# Altium footprint library Switch.PcbLib: 29 footprints (part 1 of 2)
Each footprint in its own frame and in the unit in brackets; x right, y up, seen from the top. Pads: shape width x height; smd on the part's side, far side on the other; paste and mask are expansions set on the pad; w line width, h text height; cw(c..) or ccw(c..) is an arc to the next point about the centre after c.
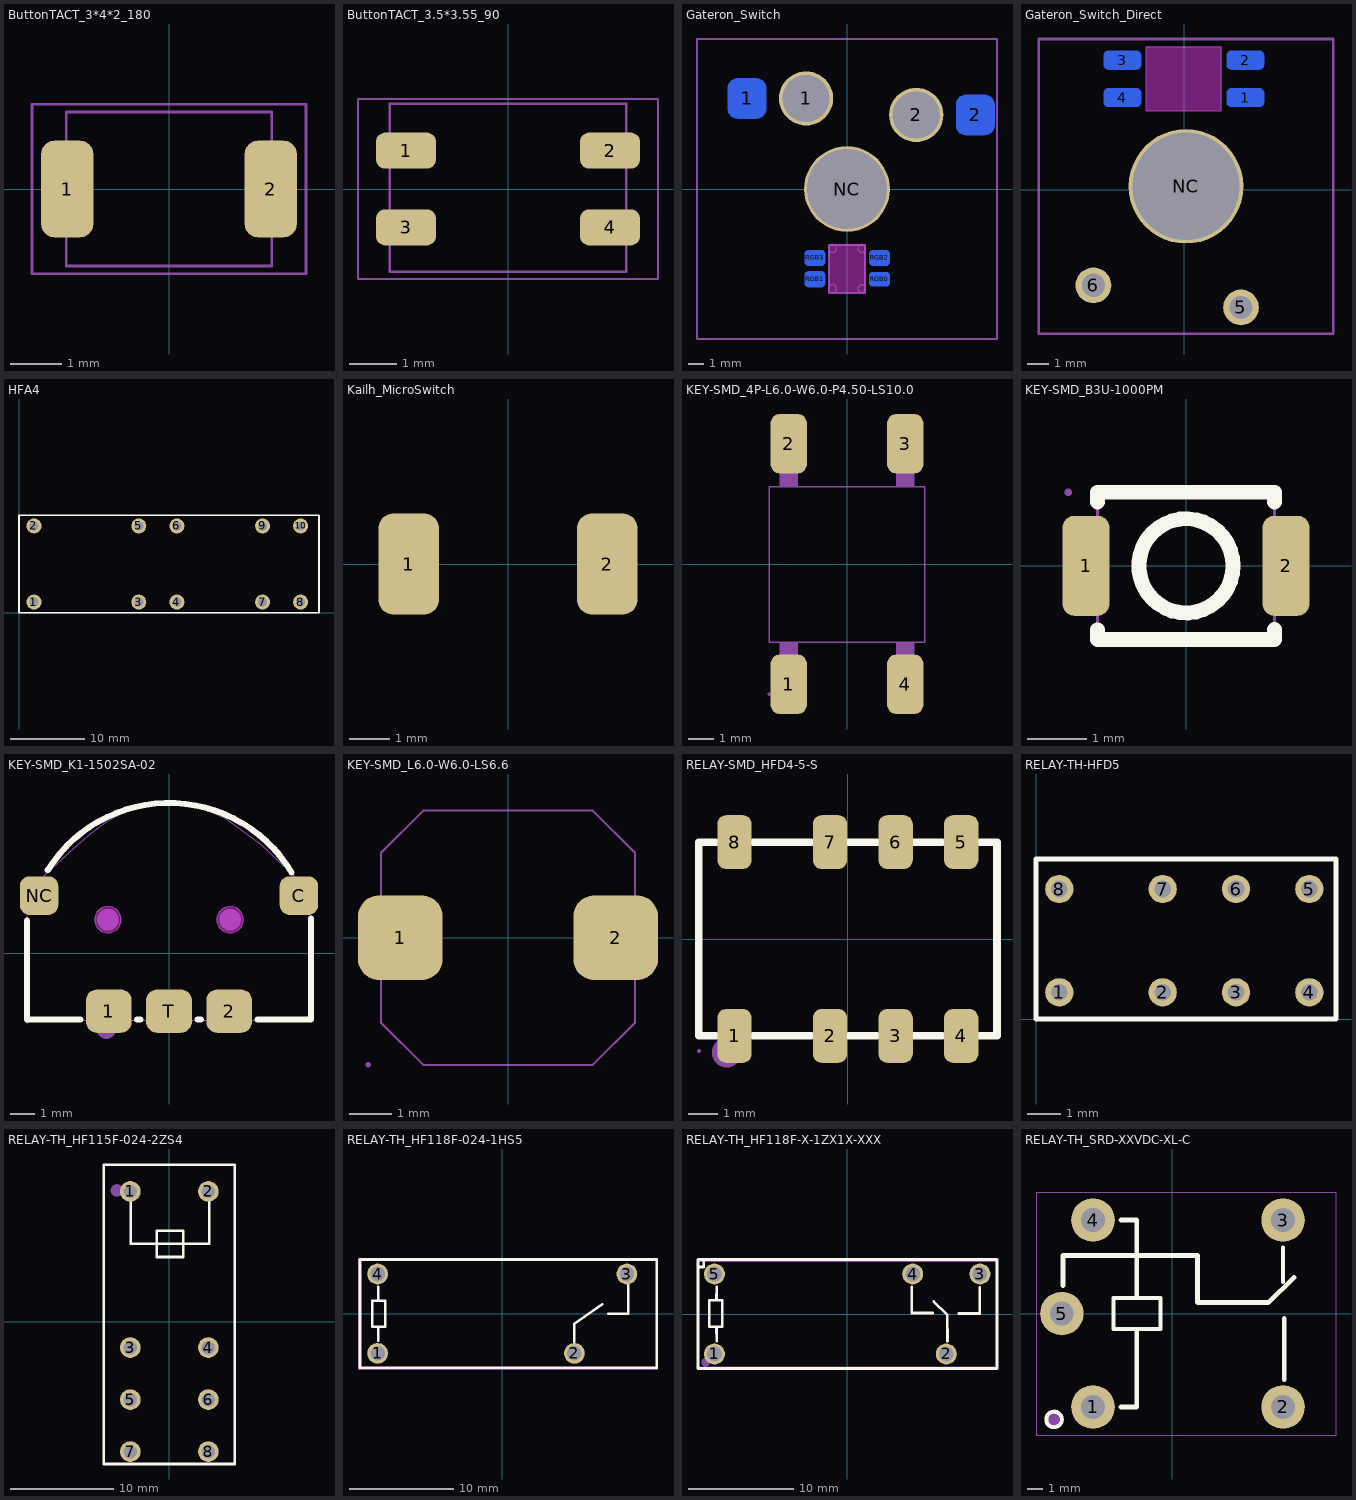
[diagram p0: the footprints below, top view; thin cyan lines are the x and y axes]

## ButtonTACT_3*4*2_180 [mil] "两脚小龟按钮_正按_不带定位柱"
height 78.74
pads (2):
  rrect50% 40x74 smd: 1(-78,0) 2(78,0)
Mechanical 13:
  lines w2: -78.73,-59.05 78.75,-59.05 78.75,59.06 -78.74,59.06 -78.74,-59.06
Mechanical 14:
  lines w2: -105,-65 105,-65 105,65 -105,65 -105,-65
3D body "20041.stp": height 62.99, standoff 0, extent -78.73,-49.2 78.75,49.22

## ButtonTACT_3.5*3.55_90 [mil] "四脚中龟按钮_侧按_不带定位柱"
height 169.29
pads (4):
  rrect50% 50x30 smd: 1(-85,32) 2(85,32) 3(-85,-32) 4(85,-32)
Mechanical 13:
  lines w2: -98.43,-68.9 -98.43,71 98.43,71 98.43,-68.9 -98.43,-68.9
Mechanical 14:
  lines w2: -125,-75 -125,75 125,75 125,-75 -125,-75
3D body "User Library-KMS231G.STEP": height 55.91, standoff -0.77, extent -90.1,-54.76 91,85

## Gateron_Switch [mm] "佳达隆热插拔带灯矮轴"
pads (9):
  rrect50% 2.45x2.55 smd far side mask+0.051: 1(-6.35,5.752) 2(8.15,4.702)
  round 3.45 hole 3 mask+0.051: 1(-2.6,5.752) 2(4.4,4.702)
  round 5.45 hole 5.1 mask+0.102: NC(0,0)
  rrect50% 1.3x0.9 smd far side mask+0.051: RGB0(2.063,-5.727)
  rrect50% 1.3x1 smd far side mask+0.051: RGB1(-2.037,-5.727) RGB2(2.063,-4.377) RGB3(-2.037,-4.377)
Bottom Overlay:
  circle w0.2: c-2.527,-3.401 r0.1
  lines w0.15: -7,-6 -7,-7 -6,-7 ; 6,-7 7,-7 7,-6
  lines w0.254: -5.2,4.245 -5.2,3.577 1.1,3.577 cw(c1.1,2.98) 1.522,3.402 2.626,2.701 ccw(c3.048,3.123) 3.048,2.527 7,2.527 7,3.195 ; -5.2,7.258 -5.2,7.927 1.1,7.927 cw(c1.1,7.33) 1.522,7.752 2.626,7.051 ccw(c3.048,7.473) 3.048,6.877 7,6.877 7,6.208
Keep-Out Layer:
  board cut-out: 1.163,-6.552 -1.137,-6.552 -1.137,-3.552 1.163,-3.552
  board cut-out: -0.667,-3.772 -0.667,-3.822 -0.705,-3.914 -0.776,-3.984 -0.867,-4.022 -0.967,-4.022 -1.059,-3.984 -1.129,-3.914 -1.167,-3.822 -1.167,-3.772 -1.167,-3.722 -1.129,-3.631 -1.059,-3.56 -0.967,-3.522 -0.867,-3.522 -0.776,-3.56 -0.705,-3.631 -0.667,-3.722 -0.667,-3.772
  board cut-out: 1.193,-3.772 1.193,-3.822 1.155,-3.914 1.084,-3.984 0.992,-4.022 0.893,-4.022 0.801,-3.984 0.731,-3.914 0.693,-3.822 0.693,-3.772 0.693,-3.722 0.731,-3.631 0.801,-3.56 0.893,-3.522 0.992,-3.522 1.084,-3.56 1.155,-3.631 1.193,-3.722 1.193,-3.772
  board cut-out: 1.193,-6.332 1.193,-6.382 1.155,-6.474 1.084,-6.544 0.992,-6.582 0.893,-6.582 0.801,-6.544 0.731,-6.474 0.693,-6.382 0.693,-6.332 0.693,-6.282 0.731,-6.19 0.801,-6.12 0.893,-6.082 0.992,-6.082 1.084,-6.12 1.155,-6.19 1.193,-6.282 1.193,-6.332
  board cut-out: -0.667,-6.332 -0.667,-6.382 -0.705,-6.474 -0.776,-6.544 -0.867,-6.582 -0.967,-6.582 -1.059,-6.544 -1.129,-6.474 -1.167,-6.382 -1.167,-6.332 -1.167,-6.282 -1.129,-6.19 -1.059,-6.12 -0.967,-6.082 -0.867,-6.082 -0.776,-6.12 -0.705,-6.19 -0.667,-6.282 -0.667,-6.332
Mechanical 1:
  circle w0.025: c-0.917,-3.772 r0.25
  circle w0.025: c0.943,-3.772 r0.25
  circle w0.025: c0.943,-6.332 r0.25
  circle w0.025: c-0.917,-6.332 r0.25
  lines w0.025: -1.137,-6.552 -1.137,-3.552 1.163,-3.552 1.163,-6.552 -1.137,-6.552
Mechanical 6:
  circle w0.1: c-2.038,-4.376 r0.228
  circle w0.127: c-2.6,5.75 r1.5
  circle w0.127: c4.4,4.7 r1.5
  lines w0.1: -1.143,-6.604 1.143,-6.604 1.143,-3.556 -1.143,-3.556 -1.143,-4.206 -1.143,-4.191 -1.143,-6.589
  lines w0.15: -9.525,-9.525 9.525,-9.525 9.525,9.525 -9.525,9.525 -9.525,-9.525

## Gateron_Switch_Direct [mil]
pads (7):
  rrect50% 70x35 smd far side paste+0 mask+4: 1(114,172) 2(114,242) 3(-116,242) 4(-116,172)
  round 66.93 hole 43.31 paste-99999 mask+2: 5(105.87,-220.44) 6(-170.22,-179.05)
  round 214.57 hole 200.79 copper offset -0.01,-0.01 paste-99999 mask+4.02: NC(2.99,5.99)
Bottom Overlay:
  circle w4.92: c170,170 r0.39
Keep-Out Layer:
  board cut-out: 68.72,267.28 -71.28,267.28 -71.28,147.28 68.72,147.28
Mechanical 1:
  lines w0.2: -71.28,147.28 -71.28,267.28 68.72,267.28 68.72,147.28 -71.28,147.28
Mechanical 6:
  circle w10: c3,6 r100.39
  lines w5: -272.58,-269.58 -272.58,281.6 278.6,281.6 278.6,-269.58 -272.58,-269.58

## HFA4 [mm]
pads (10):
  round 2 hole 1.2: 1(2,1.42) 2(2,11.58) 3(15.97,1.42) 4(21.05,1.42) 5(15.97,11.58) 6(21.05,11.58) 7(32.48,1.42) 8(37.56,1.42) 9(32.48,11.58) 10(37.56,11.58)
Top Overlay:
  lines w0.203: 40,0 0,0 0,13 40,13 ; 40.005,0 40.005,13

## Kailh_MicroSwitch [mm]
pads (2):
  rrect50% 1.5x2.5 smd mask+0.051: 1(-2.45,0) 2(2.45,0)

## KEY-SMD_4P-L6.0-W6.0-P4.50-LS10.0 [mm]
pads (4):
  rrect50% 1.4x2.3 smd: 1(-2.25,-4.643) 2(-2.25,4.643) 3(2.25,4.643) 4(2.25,-4.643)
Mechanical 15:
  region: -2.6,-5.025 -2.6,-4.265 -1.9,-4.265 -1.9,-5.025
  region: -2.6,-4.275 -2.6,-3.015 -1.9,-3.015 -1.9,-4.275
  region: 1.9,-5.025 1.9,-4.265 2.6,-4.265 2.6,-5.025
  region: 1.9,-4.275 1.9,-3.015 2.6,-3.015 2.6,-4.275
  region: -2.6,4.215 -2.6,4.975 -1.9,4.975 -1.9,4.215
  region: -2.6,2.965 -2.6,4.225 -1.9,4.225 -1.9,2.965
  region: 1.9,4.215 1.9,4.975 2.6,4.975 2.6,4.215
  region: 1.9,2.965 1.9,4.225 2.6,4.225 2.6,2.965
  region: -2.94,-5.025 -2.94,-5.001 -2.975,-4.965 -3.025,-4.965 -3.06,-5.001 -3.06,-5.025 -3.06,-5.05 -3.025,-5.085 -2.975,-5.085 -2.94,-5.05 -2.94,-5.025
  lines w0.051: -3,-3.025 3,-3.025 3,2.975 -3,2.975 -3,-3.025
3D body "key.step": height 4.95, standoff -0.05, extent -3.002,-5.002 2.998,4.998

## KEY-SMD_B3U-1000PM [mil]
pads (2):
  rrect50% 31.5x66.9 smd mask+2: 1(-66.9,0) 2(66.9,0)
Top Overlay:
  circle w10: c0,0 r31.5
  lines w10: -59.1,-42.8 -59.1,-49.2 ; -59.1,42.6 -59.1,49.2 ; 59.1,-42.6 59.1,-49.2 ; 59.1,42.6 59.1,49.2 ; -59.1,-49.2 59.1,-49.2 ; -59.1,-49.2 59.1,-49.2 ; -59.1,49.2 59.1,49.2 ; -59.1,49.2 59.1,49.2
Mechanical 15:
  region: -76.3,49.2 -76.3,50.19 -77.71,51.6 -79.69,51.6 -81.1,50.19 -81.1,49.2 -81.1,48.21 -79.69,46.8 -77.71,46.8 -76.3,48.21 -76.3,49.2
  region: 55.1,-27.6 55.1,27.6 78.7,27.6 78.7,-27.6
  region: -78.7,-27.6 -78.7,27.6 -55.1,27.6 -55.1,-27.6
  lines w2: -59.1,-49.2 -59.1,49.2 59.1,49.2 59.1,-49.2 -59.1,-49.2

## KEY-SMD_K1-1502SA-02 [mm] "三向拨动开关"
pads (5):
  rrect50% 1.9x1.8 smd mask+0.051: 1(-2.5,-2.4) 2(2.5,-2.4) T(0,-2.4)
  rrect50% 1.6x1.6 smd mask+0.051: C(5.4,2.4) NC(-5.4,2.4)
Top Overlay:
  lines w0.254: -5.9,1.369 -5.9,-2.75 -3.681,-2.75 ; -5.04,3.458 cw(c0,0.308) 5.094,3.369 ; -1.319,-2.75 -1.181,-2.75 ; 1.181,-2.75 1.319,-2.75 ; 3.681,-2.75 5.9,-2.75 5.9,1.45
Keep-Out Layer:
  board cut-out: 2.54,1.95 2.431,1.95 2.228,1.866 2.074,1.712 1.99,1.509 1.99,1.291 2.074,1.088 2.228,0.934 2.431,0.85 2.54,0.85 2.649,0.85 2.852,0.934 3.006,1.088 3.09,1.291 3.09,1.509 3.006,1.712 2.852,1.866 2.649,1.95 2.54,1.95
  board cut-out: -2.54,1.95 -2.649,1.95 -2.852,1.866 -3.006,1.712 -3.09,1.509 -3.09,1.291 -3.006,1.088 -2.852,0.934 -2.649,0.85 -2.54,0.85 -2.431,0.85 -2.228,0.934 -2.074,1.088 -1.99,1.291 -1.99,1.509 -2.074,1.712 -2.228,1.866 -2.431,1.95 -2.54,1.95
Mechanical 1:
  circle w0.005: c2.54,1.4 r0.55
  circle w0.005: c-2.54,1.4 r0.55
Mechanical 6:
  circle w0.4: c-2.6,-3.15 r0.2
  circle w0.45: c2.54,1.4 r0.225
  circle w0.45: c-2.54,1.4 r0.225
Mechanical 15:
  region: 4.9,1.8 4.9,3 5.9,3 5.9,1.8
  region: -5.9,1.8 -5.9,3 -4.9,3 -4.9,1.8
  region: 1.75,-1.7 3.25,-1.7 3.25,-2.85 1.75,-2.85
  region: -0.75,-1.7 0.75,-1.7 0.75,-2.85 -0.75,-2.85
  region: -1.75,-2.85 -3.25,-2.85 -3.25,-1.7 -1.75,-1.7
  region: -5.9,-2.79 -5.925,-2.79 -5.96,-2.825 -5.96,-2.875 -5.925,-2.91 -5.9,-2.91 -5.875,-2.91 -5.84,-2.875 -5.84,-2.825 -5.875,-2.79 -5.9,-2.79
  lines w0.051: -4,6.83 -3.999,6.831 ; -1.31,6.05 -2.024,5.772 -2.629,5.453 -3.24,4.99 -3.81,4.5 -5.4,3.03 -5.9,3.03 -5.9,-2.77 5.9,-2.77 5.9,3.029 5.9,3.03 5.4,3.03 3.806,4.528 2.339,5.619 1.31,6.05
3D body "三向开关 v1.step": height 2.58, standoff -0.42, extent -5.9,-2.799 5.9,8.951

## KEY-SMD_L6.0-W6.0-LS6.6 [mm]
pads (2):
  rrect50% 2x2 smd: 1(-2.54,0) 2(2.54,0)
Mechanical 15:
  region: -3.3,-0.7 -3.3,0.7 -2.3,0.7 -2.3,-0.7
  region: 2.3,-0.7 2.3,0.7 3.3,0.7 3.3,-0.7
  region: -3.24,-3 -3.24,-2.975 -3.275,-2.94 -3.325,-2.94 -3.36,-2.975 -3.36,-3 -3.36,-3.025 -3.325,-3.06 -3.275,-3.06 -3.24,-3.025 -3.24,-3
  lines w0.051: -3,-2 -2,-3 2,-3 3,-2 3,2 2,3 -2,3 -3,2 -3,-2
3D body "silence key.step": height 5, standoff 0, extent -3.3,-3 3.299,3

## RELAY-SMD_HFD4-5-S [mm]
pads (8):
  rrect50% 1.15x1.8 smd: 1(-3.8,-3.25) 2(-0.6,-3.25) 3(1.6,-3.25) 4(3.8,-3.25) 5(3.8,3.25) 6(1.6,3.25) 7(-0.6,3.25) 8(-3.8,3.25)
Top Overlay:
  lines w0.254: -4.431,-3.25 -5,-3.25 -5,3.25 -4.431,3.25 ; -3.169,-3.25 -1.231,-3.25 ; -3.169,3.25 -1.231,3.25 ; 0.031,-3.25 0.969,-3.25 ; 0.031,3.25 0.969,3.25 ; 2.231,-3.25 3.169,-3.25 ; 2.231,3.25 3.169,3.25 ; 4.431,-3.25 5,-3.25 5,3.25 4.431,3.25
Mechanical 6:
  circle w0.5: c-4.064,-3.81 r0.25
Mechanical 15:
  region: -4.94,-3.75 -4.94,-3.725 -4.975,-3.69 -5.025,-3.69 -5.06,-3.725 -5.06,-3.75 -5.06,-3.775 -5.025,-3.81 -4.975,-3.81 -4.94,-3.775 -4.94,-3.75
  region: -0.8,-3.75 -0.8,-2.39 -0.4,-2.39 -0.4,-3.75
  region: 1.4,-3.75 1.4,-2.39 1.8,-2.39 1.8,-3.75
  region: -4,-3.75 -4,-2.39 -3.6,-2.39 -3.6,-3.75
  region: 3.6,-3.75 3.6,-2.39 4,-2.39 4,-3.75
  region: 4,3.75 4,2.39 3.6,2.39 3.6,3.75
  region: 1.8,3.75 1.8,2.39 1.4,2.39 1.4,3.75
  region: -0.4,3.75 -0.4,2.39 -0.8,2.39 -0.8,3.75
  region: -3.6,3.75 -3.6,2.39 -4,2.39 -4,3.75
  lines w0.051: -5,-3.25 5,-3.25 5,3.25 -5,3.25 -5,-3.25

## RELAY-TH-HFD5 [mm]
pads (8):
  round 0.85 hole 0.5: 1(0.7,0.8) 2(3.8,0.8) 3(6,0.8) 4(8.2,0.8) 5(8.2,3.9) 6(6,3.9) 7(3.8,3.9) 8(0.7,3.9)
Top Overlay:
  lines w0.152: 0,0 0,4.8 9,4.8 9,0 0,0

## RELAY-TH_HF115F-024-2ZS4 [mm]
pads (8):
  round 2 hole 1.3 mask+0.05: 1(-3.78,12.6) 2(3.78,12.6) 3(-3.78,-2.52) 4(3.78,-2.52) 5(-3.78,-7.56) 6(3.78,-7.56) 7(-3.78,-12.6) 8(3.78,-12.6)
Top Overlay:
  lines w0.254: -3.746,12.601 -3.746,7.521 3.873,7.521 3.873,12.601 ; -6.35,-13.8 6.35,-13.8 6.35,15.199 -6.1,15.199 -6.35,15.2 -6.35,-13.8 ; -1.206,6.251 -1.206,8.791 1.333,8.791 1.333,6.251 -1.206,6.251
Mechanical 6:
  circle w0.6: c-5.08,12.7 r0.3
Mechanical 15:
  region: -6.29,15.201 -6.29,15.225 -6.325,15.26 -6.375,15.26 -6.41,15.225 -6.41,15.201 -6.41,15.176 -6.375,15.141 -6.325,15.141 -6.29,15.176 -6.29,15.201
  region: 3.53,12.35 3.53,12.85 4.03,12.85 4.03,12.35
  region: -4.03,12.35 -4.03,12.85 -3.53,12.85 -3.53,12.35
  region: 3.38,-2.77 3.38,-2.27 4.18,-2.27 4.18,-2.77
  region: 3.38,-7.81 3.38,-7.31 4.18,-7.31 4.18,-7.81
  region: 3.38,-12.85 3.38,-12.35 4.18,-12.35 4.18,-12.85
  region: -4.18,-12.85 -4.18,-12.35 -3.38,-12.35 -3.38,-12.85
  region: -4.18,-7.81 -4.18,-7.31 -3.38,-7.31 -3.38,-7.81
  region: -4.18,-2.77 -4.18,-2.27 -3.38,-2.27 -3.38,-2.77
  lines w0.051: -6.35,-13.8 -6.35,15.2 6.35,15.2 6.35,-13.8 -6.35,-13.8

## RELAY-TH_HF118F-024-1HS5 [mm]
pads (4):
  round 2 hole 1.4 paste-2539.97 mask+0.051: 1(-11.97,-3.81) 2(6.93,-3.81) 3(11.97,3.81) 4(-11.97,3.81)
Top Overlay:
  lines w0.254: -11.9,-2.6 -11.9,-1.3 ; -11.9,1.4 -11.9,2.6 ; 6.9,-2.7 6.9,-1 9.6,0.9 ; 10.2,0 12.1,0 12.1,2.8 ; -13.67,-5.2 -13.67,5.2 14.83,5.2 14.83,-5.2 -13.67,-5.2 ; -12.5,-1.25 -12.5,1.25 -11.25,1.25 -11.25,-1.25 -12.5,-1.25
Mechanical 15:
  region: -13.737,-5.327 -13.737,-5.302 -13.772,-5.267 -13.822,-5.267 -13.857,-5.302 -13.857,-5.327 -13.857,-5.352 -13.822,-5.387 -13.772,-5.387 -13.737,-5.352 -13.737,-5.327
  region: -11.37,-3.81 -11.37,-3.691 -11.461,-3.47 -11.63,-3.301 -11.851,-3.21 -12.089,-3.21 -12.31,-3.301 -12.479,-3.47 -12.57,-3.691 -12.57,-3.81 -12.57,-3.929 -12.479,-4.15 -12.31,-4.319 -12.089,-4.41 -11.851,-4.41 -11.63,-4.319 -11.461,-4.15 -11.37,-3.929 -11.37,-3.81
  region: -11.37,3.81 -11.37,3.929 -11.461,4.15 -11.63,4.319 -11.851,4.41 -12.089,4.41 -12.31,4.319 -12.479,4.15 -12.57,3.929 -12.57,3.81 -12.57,3.691 -12.479,3.47 -12.31,3.301 -12.089,3.21 -11.851,3.21 -11.63,3.301 -11.461,3.47 -11.37,3.691 -11.37,3.81
  region: 12.57,3.81 12.57,3.929 12.479,4.15 12.31,4.319 12.089,4.41 11.851,4.41 11.63,4.319 11.461,4.15 11.37,3.929 11.37,3.81 11.37,3.691 11.461,3.47 11.63,3.301 11.851,3.21 12.089,3.21 12.31,3.301 12.479,3.47 12.57,3.691 12.57,3.81
  region: 7.53,-3.81 7.53,-3.691 7.439,-3.47 7.27,-3.301 7.049,-3.21 6.811,-3.21 6.59,-3.301 6.421,-3.47 6.33,-3.691 6.33,-3.81 6.33,-3.929 6.421,-4.15 6.59,-4.319 6.811,-4.41 7.049,-4.41 7.27,-4.319 7.439,-4.15 7.53,-3.929 7.53,-3.81
  lines w0.051: -13.797,-5.327 -13.797,5.327 14.957,5.327 14.957,-5.327 -13.797,-5.327

## RELAY-TH_HF118F-X-1ZX1X-XXX [mm]
pads (5):
  round 2 hole 1.4 paste-2539.97 mask+0.051: 1(-12.65,-3.81) 2(9.45,-3.81) 3(12.65,3.81) 4(6.25,3.81) 5(-12.65,3.81)
Top Overlay:
  lines w0.254: -14.22,4.481 -13.682,4.481 -13.682,5.2 ; -12.45,-1.2 -12.435,-2.6 ; -12.45,1.3 -12.435,2.6 ; 6.15,2.6 6.15,0.1 8.15,0.1 ; 8.25,1.2 9.551,-0.1 9.565,-2.6 ; 10.65,0.05 12.65,0.05 12.65,2.55 ; -14.22,-5.2 14.28,-5.2 14.28,5.2 -14.22,5.2 -14.22,-5.2 ; -13.15,-1.2 -11.9,-1.2 -11.9,1.3 -13.15,1.3 -13.15,-1.2
Mechanical 6:
  circle w0.4: c-13.5,-4.6 r0.2
Mechanical 15:
  region: -14.19,-5.05 -14.19,-5.025 -14.225,-4.99 -14.275,-4.99 -14.31,-5.025 -14.31,-5.05 -14.31,-5.075 -14.275,-5.11 -14.225,-5.11 -14.19,-5.075 -14.19,-5.05
  region: -12.9,-3.56 -12.4,-3.56 -12.4,-4.06 -12.9,-4.06
  region: -12.9,4.06 -12.4,4.06 -12.4,3.56 -12.9,3.56
  region: 6.05,3.41 6.05,4.21 6.45,4.21 6.45,3.41
  region: 12.45,3.41 12.45,4.21 12.85,4.21 12.85,3.41
  region: 9.25,-4.21 9.25,-3.41 9.65,-3.41 9.65,-4.21
  lines w0.051: -14.25,-5.05 -14.25,5.05 14.25,5.05 14.25,-5.05 -14.25,-5.05

## RELAY-TH_SRD-XXVDC-XL-C [mil]
pads (5):
  round 110 hole 60: 1(-200.79,-236.22) 2(279.52,-236.2) 3(279.53,236.2) 4(-200.79,236.22) 5(-279.53,0)
Top Overlay:
  circle w10: c-299.21,-267.72 r19.69
  lines w10: 279.5,79.5 279.5,167.2 ; -148.62,-39.37 -30.51,-39.37 -30.51,39.37 -148.62,39.37 -148.62,-39.37
  lines w11.81: -276.84,70.87 -276.84,146.74 63.16,146.74 63.16,28.63 64.11,27.68 222.22,27.68 242.22,27.68 ; -130.31,-236.22 -90.24,-236.22 -90.24,-41.39 ; -130.31,236.22 -90.24,236.22 -90.24,41.37 ; 242.13,27.6 307.11,90.9 ; 282.22,-167.6 282.22,-12.3
Mechanical 6:
  circle w19.68: c-299.21,-267.72 r9.84
Mechanical 15:
  region: -340.16,-307.07 -340.16,-306.09 -341.54,-304.71 -343.5,-304.71 -344.88,-306.09 -344.88,-307.07 -344.88,-308.05 -343.5,-309.43 -341.54,-309.43 -340.16,-308.05 -340.16,-307.07
  region: -188.97,236.22 -189.02,238.54 -190.86,242.8 -194.17,246.05 -198.47,247.8 -203.11,247.8 -207.4,246.05 -210.72,242.8 -212.56,238.54 -212.6,236.22 -212.56,233.9 -210.72,229.64 -207.4,226.39 -203.11,224.63 -198.47,224.63 -194.17,226.39 -190.86,229.64 -189.02,233.9 -188.97,236.22
  region: -188.97,-236.22 -189.02,-233.9 -190.86,-229.64 -194.17,-226.39 -198.47,-224.64 -203.11,-224.64 -207.4,-226.39 -210.72,-229.64 -212.56,-233.9 -212.6,-236.22 -212.56,-238.54 -210.72,-242.8 -207.4,-246.05 -203.11,-247.81 -198.47,-247.81 -194.17,-246.05 -190.86,-242.8 -189.02,-238.54 -188.97,-236.22
  region: -271.66,21.65 -271.66,-21.65 -287.4,-21.65 -287.4,21.65
  region: 299.21,226.36 259.85,226.36 259.85,246.04 299.21,246.04
  region: 299.21,-246.04 259.85,-246.04 259.85,-226.36 299.21,-226.36
  lines w2: -342.52,-307.07 -342.52,307.09 413.39,307.09 413.39,-307.07 -342.52,-307.07
3D body "relay.step": height 641.73, standoff -137.79, extent -343.07,-307.08 412.84,307.48